# Altium schematic symbol library BATTERIJ OPLADERS.SchLib: 2 symbols
Pins are listed as number, name and electrical type; pins without a type are passive.

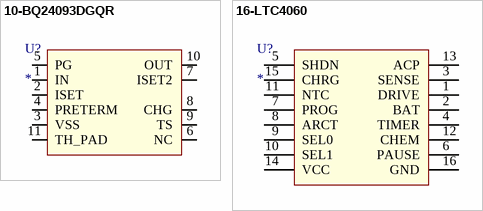
[diagram p0: symbols 10-BQ24093DGQR to 16-LTC4060]

## 10-BQ24093DGQR
designator U?
Battery Management 1A Sgl-Inp Sgl-Cell Li-Ion Batt Charger; type: *
footprint HVSSOP_10-BQ24093DGQR (Battery Management 1A Sgl-Inp Sgl-Cell Li-Ion Batt Charger)
pins: 1 IN, 2 ISET, 3 VSS, 4 PRETERM, 5 PG, 6 NC, 7 ISET2, 8 CHG, 9 TS, 10 OUT, 11 TH_PAD

## 16-LTC4060
designator U?
Battery Charger, NiMH/NiCd, Standalone, Linear, 1-4 Cell
pins: 1 DRIVE, 2 BAT, 3 SENSE, 4 TIMER, 5 SHDN, 6 PAUSE, 7 PROG, 8 ARCT, 9 SEL0, 10 SEL1, 11 NTC, 12 CHEM, 13 ACP, 14 VCC, 15 CHRG, 16 GND